# Altium schematic symbol library Schlib1.SchLib: 1 symbol
Pins are listed as number, name and electrical type; pins without a type are passive.

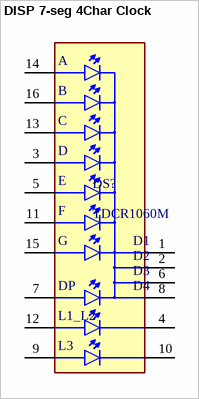
[diagram p0: symbol DISP 7-seg 4Char Clock]

## DISP 7-seg 4Char Clock
designator DS?, comment TDCR1060M
Clock LED Display, 4-Character, Red, 10mm; Manufacturer: Vishay; Forward Current: 25mA; Forward Voltage: 2.4V; Number of Characters: 4; Supplier: Digikey; Supplier Part Number: TDCR1060M-ND; Manufacturer Part Number: TDCR1060M; RoHS: Yes; Category: Optoelectronics; Stock: 3748; Pricing: 1=3.34, 12=2.39083, 108=1.8975, 504=1.67593, 1008=1.59991, 2004=1.53608, 5004=1.46597 (USD); Color: Red; Color@wavelength: Red; Min Operating Temperature: -40°C; Max Operating Temperature: 85°C; Display Height: 10mm; Channels: 4; Optoelectronic Device Type: CLOCK LED DISPLAY; RoHS Compliant: Yes; ComponentLink1URL: https://datasheet.ciiva.com:443/pdfs/VipMasterIC/IC/VISH/VISH-S-A0003301798/VISH-S-A0004391181-1.pdf?src-supplier=IHS+Markit; ComponentLink1Description: https://datasheet.ciiva.com:443/pdfs/VipMasterIC/IC/VISH/VISH-S-A0003301798/VISH-S-A0004391181-1.pdf?src-supplier=IHS+Markit; ComponentLink2URL: https://datasheet.ciiva.com/18549/tdc10m-18549753.pdf?src-supplier=Digikey; ComponentLink2Description: https://datasheet.ciiva.com/18549/tdc10m-18549753.pdf?src-supplier=Digikey
footprint 16-DIP 4Char-7Seg
pins: 1 D1, 2 D2, 3 D, 4, 5 E, 6 D3, 7 DP, 8 D4, 9 L3, 10, 11 F, 12 L1_L2, 13 C, 14 A, 15 G, 16 B